# Altium schematic symbol library Schlib1.SchLib: 9 symbols
Pins are listed as number, name and electrical type; pins without a type are passive.

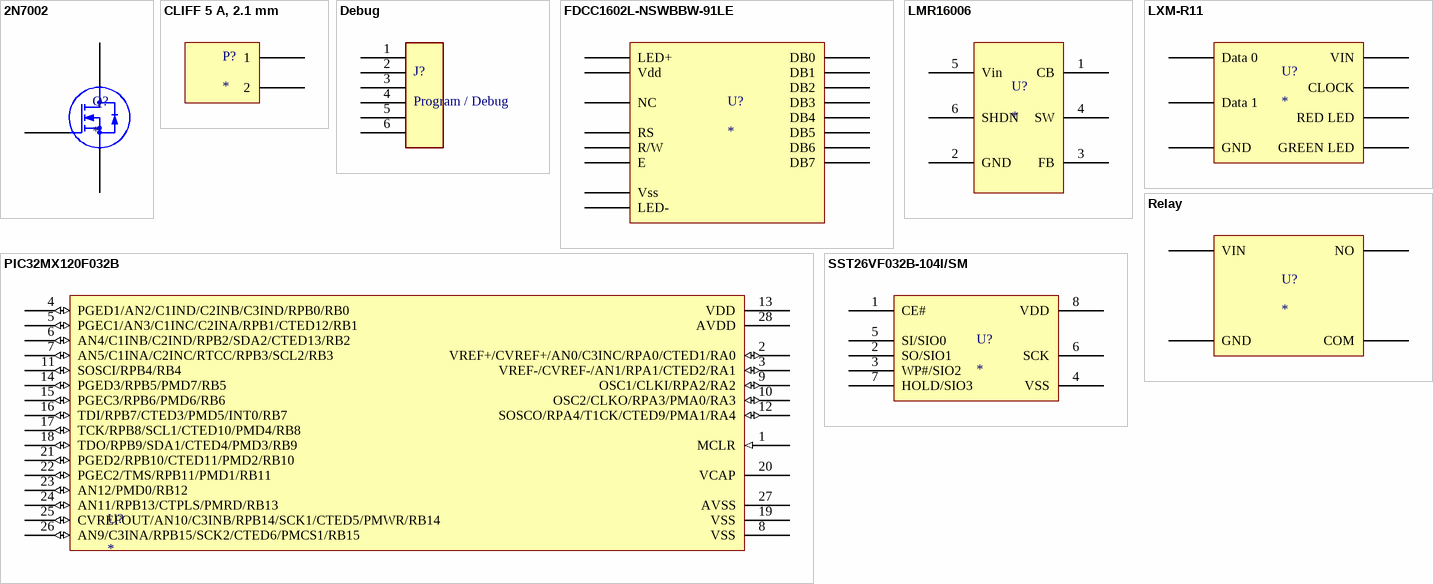
[diagram p0: symbols 2N7002 to SST26VF032B-104I/SM]

## 2N7002
designator Q?
Transistor MOSFET, Canal N, 300 mA, 60 V, 2.8 ohm, 10 V, 2 V; Fabricant: NEXPERIA; Fournisseur: Farnell; RefFabricant: 2N7002,215; RefFournisseur: 1510761
footprint PCBComponent_1
pins: D 3, G 1, S 2

## CLIFF 5 A, 2.1 mm
designator P?
Connecteurs DC Jacks; Fabricant: CLIFF ELECTRONIC COMPONENTS; RefFabricant: DC10A; Fournisseur: Farnell; RefFournisseur: 224959
footprint PCBComponent_1
pins: 1, 2

## Debug
designator J?, comment Program / Debug
RJ11; Fabricant: Tyco; RefFabricant: 1-215876-3; Fournisseur: Farnell; RefFournisseur: 1773039
footprint RJ12_90
pins: 1, 2 65, 3, 4 67, 5 68, 6 69 (power)

## FDCC1602L-NSWBBW-91LE
designator U?
Fabricant: FORDATA; RefFabricant: FDCC1602L-NSWBBW-91LE; Fournisseur: Farnell; RefFournisseur: 1847941
pins: 1 Vss, 2 Vdd, 3 NC, 4 RS, 5 R/W, 6 E, 7 DB0, 8 DB1, 9 DB2, 10 DB3, 11 DB4, 12 DB5, 13 DB6, 14 DB7, 15 LED+, 16 LED-

## LMR16006
designator U?
Régulateurs à découpage DC/DC ajustables; Fabricant: Texas Instruments; RefFabricant: LMR16006YDDC; Fournisseur: Farnell; RefFournisseur: 2455134
pins: 1 CB, 2 GND, 3 FB, 4 SW, 5 Vin, 6 SHDN

## LXM-R11
designator U?
Lecteur RFid; Fabricant: STid; RefFabricant: LXM-R11; Fournisseur: *; RefFournisseur: *
pins: 1 Data 0, 2 Data 1, 3 GND, 4 VIN, 5 CLOCK, 6 RED LED, 7 GREEN LED

## PIC32MX120F032B
designator U?
footprint PIC32MX120F032B 28-PIN SOIC
pins: 1 MCLR (in), 2 VREF+/CVREF+/AN0/C3INC/RPA0/CTED1/RA0 (io), 3 VREF-/CVREF-/AN1/RPA1/CTED2/RA1 (io), 4 PGED1/AN2/C1IND/C2INB/C3IND/RPB0/RB0 (io), 5 PGEC1/AN3/C1INC/C2INA/RPB1/CTED12/RB1 (io), 6 AN4/C1INB/C2IND/RPB2/SDA2/CTED13/RB2 (io), 7 AN5/C1INA/C2INC/RTCC/RPB3/SCL2/RB3 (io), 8 VSS, 9 OSC1/CLKI/RPA2/RA2 (io), 10 OSC2/CLKO/RPA3/PMA0/RA3 (io), 11 SOSCI/RPB4/RB4 (io), 12 SOSCO/RPA4/T1CK/CTED9/PMA1/RA4 (io), 13 VDD, 14 PGED3/RPB5/PMD7/RB5 (io), 15 PGEC3/RPB6/PMD6/RB6 (io), 16 TDI/RPB7/CTED3/PMD5/INT0/RB7 (io), 17 TCK/RPB8/SCL1/CTED10/PMD4/RB8 (io), 18 TDO/RPB9/SDA1/CTED4/PMD3/RB9 (io), 19 VSS, 20 VCAP, 21 PGED2/RPB10/CTED11/PMD2/RB10 (io), 22 PGEC2/TMS/RPB11/PMD1/RB11 (io), 23 AN12/PMD0/RB12 (io), 24 AN11/RPB13/CTPLS/PMRD/RB13 (io), 25 CVREFOUT/AN10/C3INB/RPB14/SCK1/CTED5/PMWR/RB14 (io), 26 AN9/C3INA/RPB15/SCK2/CTED6/PMCS1/RB15 (io), 27 AVSS, 28 AVDD

## Relay
designator U?
Relais de puissance; Fabricant: TE CONNECTIVITY / OEG; RefFabricant: PCFN-112H2MS; Fournisseur: Farnell; RefFournisseur: 2504686
pins: 1 VIN, 2 GND, 3 NO, 4 COM

## SST26VF032B-104I/SM
designator U?
Fabricant: MICROCHIP; Fournisseur: Farnell; RefFabricant: SST26VF032B-104I/SM; RefFournisseur: 2471177
pins: 1 CE#, 2 SO/SIO1, 3 WP#/SIO2, 4 VSS, 5 SI/SIO0, 6 SCK, 7 HOLD/SIO3, 8 VDD